# EAGLE library part GE05R (library resistor-sil)
SIL RESISTOR
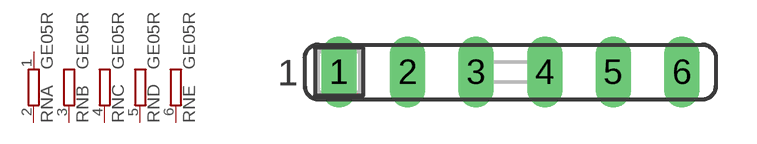
[diagram p36: symbol with the pads of SIL6; footprint SIL6]

Designator prefix RN; gates A=R-NV B=R-NV1 C=R-NV1 D=R-NV1 E=R-NV1

## GE05R (OC_FARNELL: unknown; OC_NEWARK: unknown)  [SIL6]
1  A:1  pas
2  A:2  pas
3  B:2  pas
4  C:2  pas
5  D:2  pas
6  E:2  pas

## Footprint SIL6 (pad centres in mm)
Single In Line
drill 0.813 long: 1 -6.35,0; 2 -3.81,0; 3 -1.27,0; 4 1.27,0; 5 3.81,0; 6 6.35,0